# EAGLE library part ARDUINO_UNO_R3_SHIELD (library spicboard-v3)
Arduino R3 Shield Footprint Shield form compatible with the Arduino Uno R3. SparkFun Products: MG2639 Cellular Shield <https://www.sparkfun.com/products/13120> MIDI Shield <https://www.sparkfun.com/products/12898> R3 Stackable Headers Kit <https://www.sparkfun.com/products/11417>
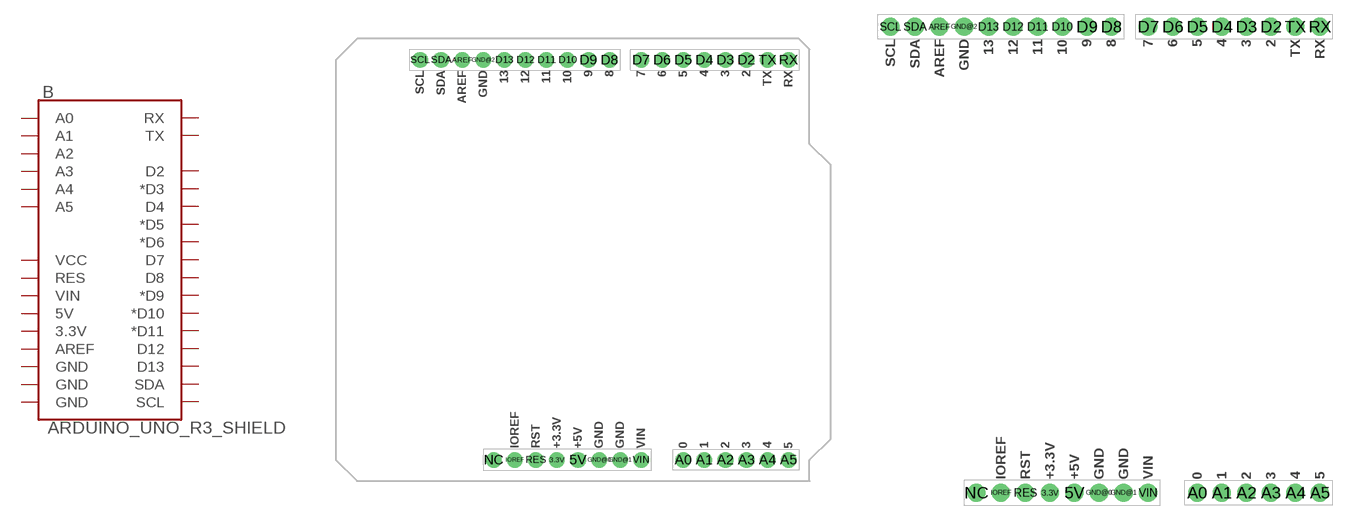
[diagram p0: symbol with the pads of UNO_R3_SHIELD; footprints UNO_R3_SHIELD, UNO_R3_SHIELD_NOFRAME]

Designator prefix B

## ARDUINO_UNO_R3_SHIELDSPICBOARD  [UNO_R3_SHIELD]
3.3V  3.3V
5V  5V
A0  A0
A1  A1
A2  A2
A3  A3
A4  A4
A5  A5
AREF  AREF
D2  D2
D3  *D3
D4  D4
D5  *D5
D6  *D6
D7  D7
D8  D8
D9  *D9
D10  *D10
D11  *D11
D12  D12
D13  D13
GND@0  GND
GND@1  GND
GND@2  GND
IOREF  VCC
RES  RES
RX  RX
SCL  SCL
SDA  SDA
TX  TX
VIN  VIN

## ARDUINO_UNO_R3_SHIELDSPICBOARD_NOFRAME  [UNO_R3_SHIELD_NOFRAME]
Pads as for UNO_R3_SHIELD

## ARDUINO_UNO_R3_SHIELD  [UNO_R3_SHIELD_FINAL]
3.3V  3.3V
5V  5V
A0  A0
A1  A1
A2  A2
A3  A3
A4  A4
A5  A5
AREF  AREF
D2  D2
D3  *D3
D4  D4
D5  *D5
D6  *D6
D7  D7
D8  D8
D9  *D9
D10  *D10
D11  *D11
D12  D12
D13  D13
GND@0  GND
GND@1  GND
GND@2  GND
RES  RES
RX  RX
SCL  SCL
SDA  SDA
TX  TX
VCC  VCC
VIN  VIN

## Footprint UNO_R3_SHIELD (pad centres in mm)
Arduino Uno-Compatible Footprint No holes, no ICSP connections. Specifications: Pin count: 32 Pin pitch: 0.1" Area:2.1x2.35" Example device(s): Arduino Uno R3 Shield
drill 1.016 pad 1.88: 3.3V 5.08,-29.21; 5V 7.62,-29.21; A0 20.32,-29.21; A1 22.86,-29.21; A2 25.4,-29.21; A3 27.94,-29.21; A4 30.48,-29.21; A5 33.02,-29.21; AREF -6.35,19.05; D2 27.94,19.05; D3 25.4,19.05; D4 22.86,19.05; D5 20.32,19.05; D6 17.78,19.05; D7 15.24,19.05; D8 11.43,19.05; D9 8.89,19.05; D10 6.35,19.05; D11 3.81,19.05; D12 1.27,19.05; D13 -1.27,19.05; GND@0 10.16,-29.21; GND@1 12.7,-29.21; GND@2 -3.81,19.05; IOREF 0,-29.21; NC -2.54,-29.21; RES 2.54,-29.21; RX 33.02,19.05; SCL -11.43,19.05; SDA -8.89,19.05; TX 30.48,19.05; VIN 15.24,-29.21

## Footprint UNO_R3_SHIELD_NOFRAME (pad centres in mm)
Arduino Uno-Compatible Footprint No holes, no ICSP connections. Specifications: Pin count: 32 Pin pitch: 0.1" Area:2.1x2.35" Example device(s): Arduino Uno R3 Shield
drill 1.016 pad 1.88: 3.3V 5.08,-29.21; 5V 7.62,-29.21; A0 20.32,-29.21; A1 22.86,-29.21; A2 25.4,-29.21; A3 27.94,-29.21; A4 30.48,-29.21; A5 33.02,-29.21; AREF -6.35,19.05; D2 27.94,19.05; D3 25.4,19.05; D4 22.86,19.05; D5 20.32,19.05; D6 17.78,19.05; D7 15.24,19.05; D8 11.43,19.05; D9 8.89,19.05; D10 6.35,19.05; D11 3.81,19.05; D12 1.27,19.05; D13 -1.27,19.05; GND@0 10.16,-29.21; GND@1 12.7,-29.21; GND@2 -3.81,19.05; IOREF 0,-29.21; NC -2.54,-29.21; RES 2.54,-29.21; RX 33.02,19.05; SCL -11.43,19.05; SDA -8.89,19.05; TX 30.48,19.05; VIN 15.24,-29.21

## Footprint UNO_R3_SHIELD_FINAL (pad centres in mm)
Arduino Uno-Compatible Footprint No holes, no ICSP connections. Specifications: Pin count: 32 Pin pitch: 0.1" Area:2.1x2.35" Example device(s): Arduino Uno R3 Shield
drill 1.016 pad 1.88: 3.3V 5.08,-29.21; 5V 7.62,-29.21; A0 20.32,-29.21; A1 22.86,-29.21; A2 25.4,-29.21; A3 27.94,-29.21; A4 30.48,-29.21; A5 33.02,-29.21; AREF -6.35,19.05; D2 27.94,19.05; D3 25.4,19.05; D4 22.86,19.05; D5 20.32,19.05; D6 17.78,19.05; D7 15.24,19.05; D8 11.43,19.05; D9 8.89,19.05; D10 6.35,19.05; D11 3.81,19.05; D12 1.27,19.05; D13 -1.27,19.05; GND@0 10.16,-29.21; GND@1 12.7,-29.21; GND@2 -3.81,19.05; NC -2.54,-29.21; RES 2.54,-29.21; RX 33.02,19.05; SCL -11.43,19.05; SDA -8.89,19.05; TX 30.48,19.05; VCC 0,-29.21; VIN 15.24,-29.21